# Altium schematic symbol library solder_jumper_3pos.SchLib: 1 symbol
Pins are listed as number, name and electrical type; pins without a type are passive.

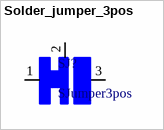
[diagram p0: symbol Solder_jumper_3pos]

## Solder_jumper_3pos
designator SJ?, comment SJumper3pos
solder jumper 3 pins
footprint PCBComponent_1
pins: 1, 2, 3